# Altium integrated library 45Ω 采样电阻.IntLib: 1 symbol
Pins are listed as number, name and electrical type; pins without a type are passive.

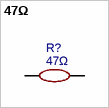
[diagram p0: symbol 47Ω]

## 47Ω
designator R?
Manufacturer: EVER OHMS(天二科技); Manufacturer Part: CR2512F47R0E04Z; nameAlias: Value; Supplier: LCSC; Supplier Part: C146892; JLCPCB Part Class: Extended Part; spicePre: R; spiceSymbolName: CR2512F47RE04
footprint R2512
pins: 1, 2